# EAGLE library part LM2904 (library apu_module)
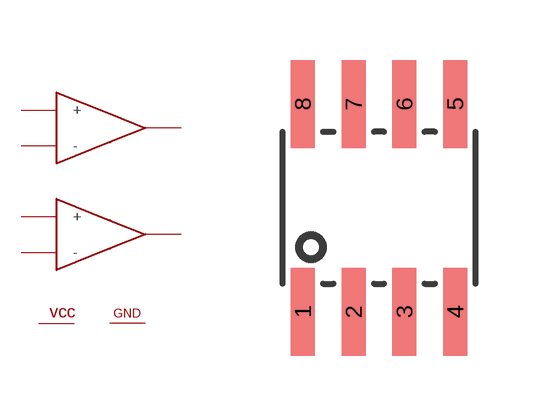
[diagram p3: symbol with the pads of SO-08; footprint SO-08]

Designator prefix -; gates G1=LM2904 G2=LM2904 SUPPLY=SUPPLY

## LM2904  [SO-08]
1  G1:OUT
2  G1:-
3  G1:+
4  SUPPLY:GND
5  G2:+
6  G2:-
7  G2:OUT
8  SUPPLY:VCC

## Footprint SO-08 (pad centres in mm)
Small Outline Narrow Plastic Gull Wing 150-mil body, package type SN
smd 0.6 x 2.2: 1 -1.905,-2.6; 2 -0.635,-2.6; 3 0.635,-2.6; 4 1.905,-2.6; 5 1.905,2.6; 6 0.635,2.6; 7 -0.635,2.6; 8 -1.905,2.6